# EAGLE library part SPARKFUN_SERLCD_SERIAL (library SerLCD)
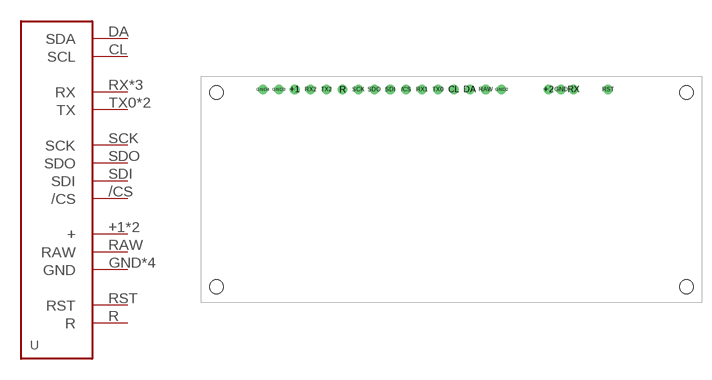
[diagram p0: symbol with the pads of SPARKFUN_SERLCD_16X2; footprint SPARKFUN_SERLCD_16X2]

Designator prefix -

## SPARKFUN_SERLCD_SERIAL  [SPARKFUN_SERLCD_16X2]
+1  +
+2  +
/CS  /CS
CL  SCL
DA  SDA
GND  GND
GND2  GND
GND3  GND
GND4  GND
R  R
RAW  RAW
RST  RST
RX  RX
RX1  RX
RX2  RX
SCK  SCK
SDI  SDI
SDO  SDO
TX0  TX
TX2  TX

## Footprint SPARKFUN_SERLCD_16X2 (pad centres in mm)
drill 1.02: +1 -25.02,16; +2 15.5,16; /CS -7.24,16; CL 0.38,16; DA 2.92,16; GND 17.5,16; GND2 8,16; GND3 -27.56,16; GND4 -30.1,16; R -17.4,16; RAW 5.46,16; RST 25,16; RX 19.5,16; RX1 -4.7,16; RX2 -22.48,16; SCK -14.86,16; SDI -9.78,16; SDO -12.32,16; TX0 -2.16,16; TX2 -19.94,16
hole 2.2 at -37.5,15.5
hole 2.2 at 37.5,15.5
hole 2.2 at 37.5,-15.5
hole 2.2 at -37.5,-15.5